# EAGLE library part 74LVC1G10W6-7 (library Diodes_Inc_By_element14_Batch_1)
SINGLE 3 INPUT POSITIVE NAND GATE
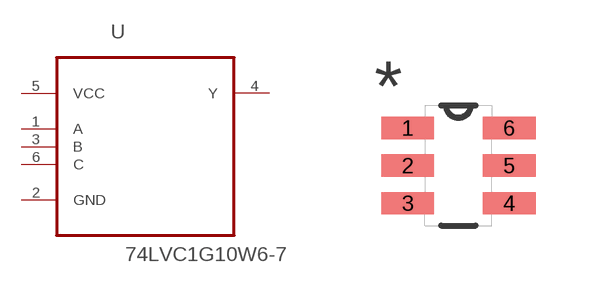
[diagram p1: symbol with the pads of SOT95P280X135-6N; footprint SOT95P280X135-6N]

Designator prefix U

## 74LVC1G10W6-7 (MPN: 74LVC1G10W6-7; OC_FARNELL: 1893823; OC_NEWARK: 47T3912; PACKAGE: SOT-6; SUPPLIER: DIODES INC.)  [SOT95P280X135-6N]
1  A  in
2  GND  pas
3  B  in
4  Y  out
5  VCC  pwr
6  C  in

## Footprint SOT95P280X135-6N (pad centres in mm)
smd 1.321 x 0.559: 1 -1.27,0.94; 2 -1.27,0; 3 -1.27,-0.94; 4 1.27,-0.94; 5 1.27,0; 6 1.27,0.94